# Altium schematic symbol library TS3A5017.Schlib: 1 symbol
Pins are listed as number, name and electrical type; pins without a type are passive.

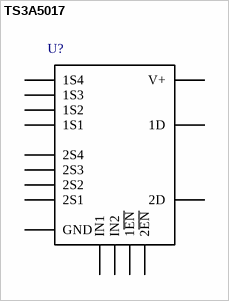
[diagram p0: symbol TS3A5017]

## TS3A5017
designator U?  (value not drawn)
IC Switch, Mux/Demux
pins: 1 1~{EN}, 2 IN2, 3 1S4, 4 1S3, 5 1S2, 6 1S1, 7 1D, 8 GND, 9 2D, 10 2S1, 11 2S2, 12 2S3, 13 2S4, 14 IN1, 15 2~{EN}, 16 V+